# Altium integrated library National Semiconductor ADC.IntLib: 538 symbols (part 9 of 19)
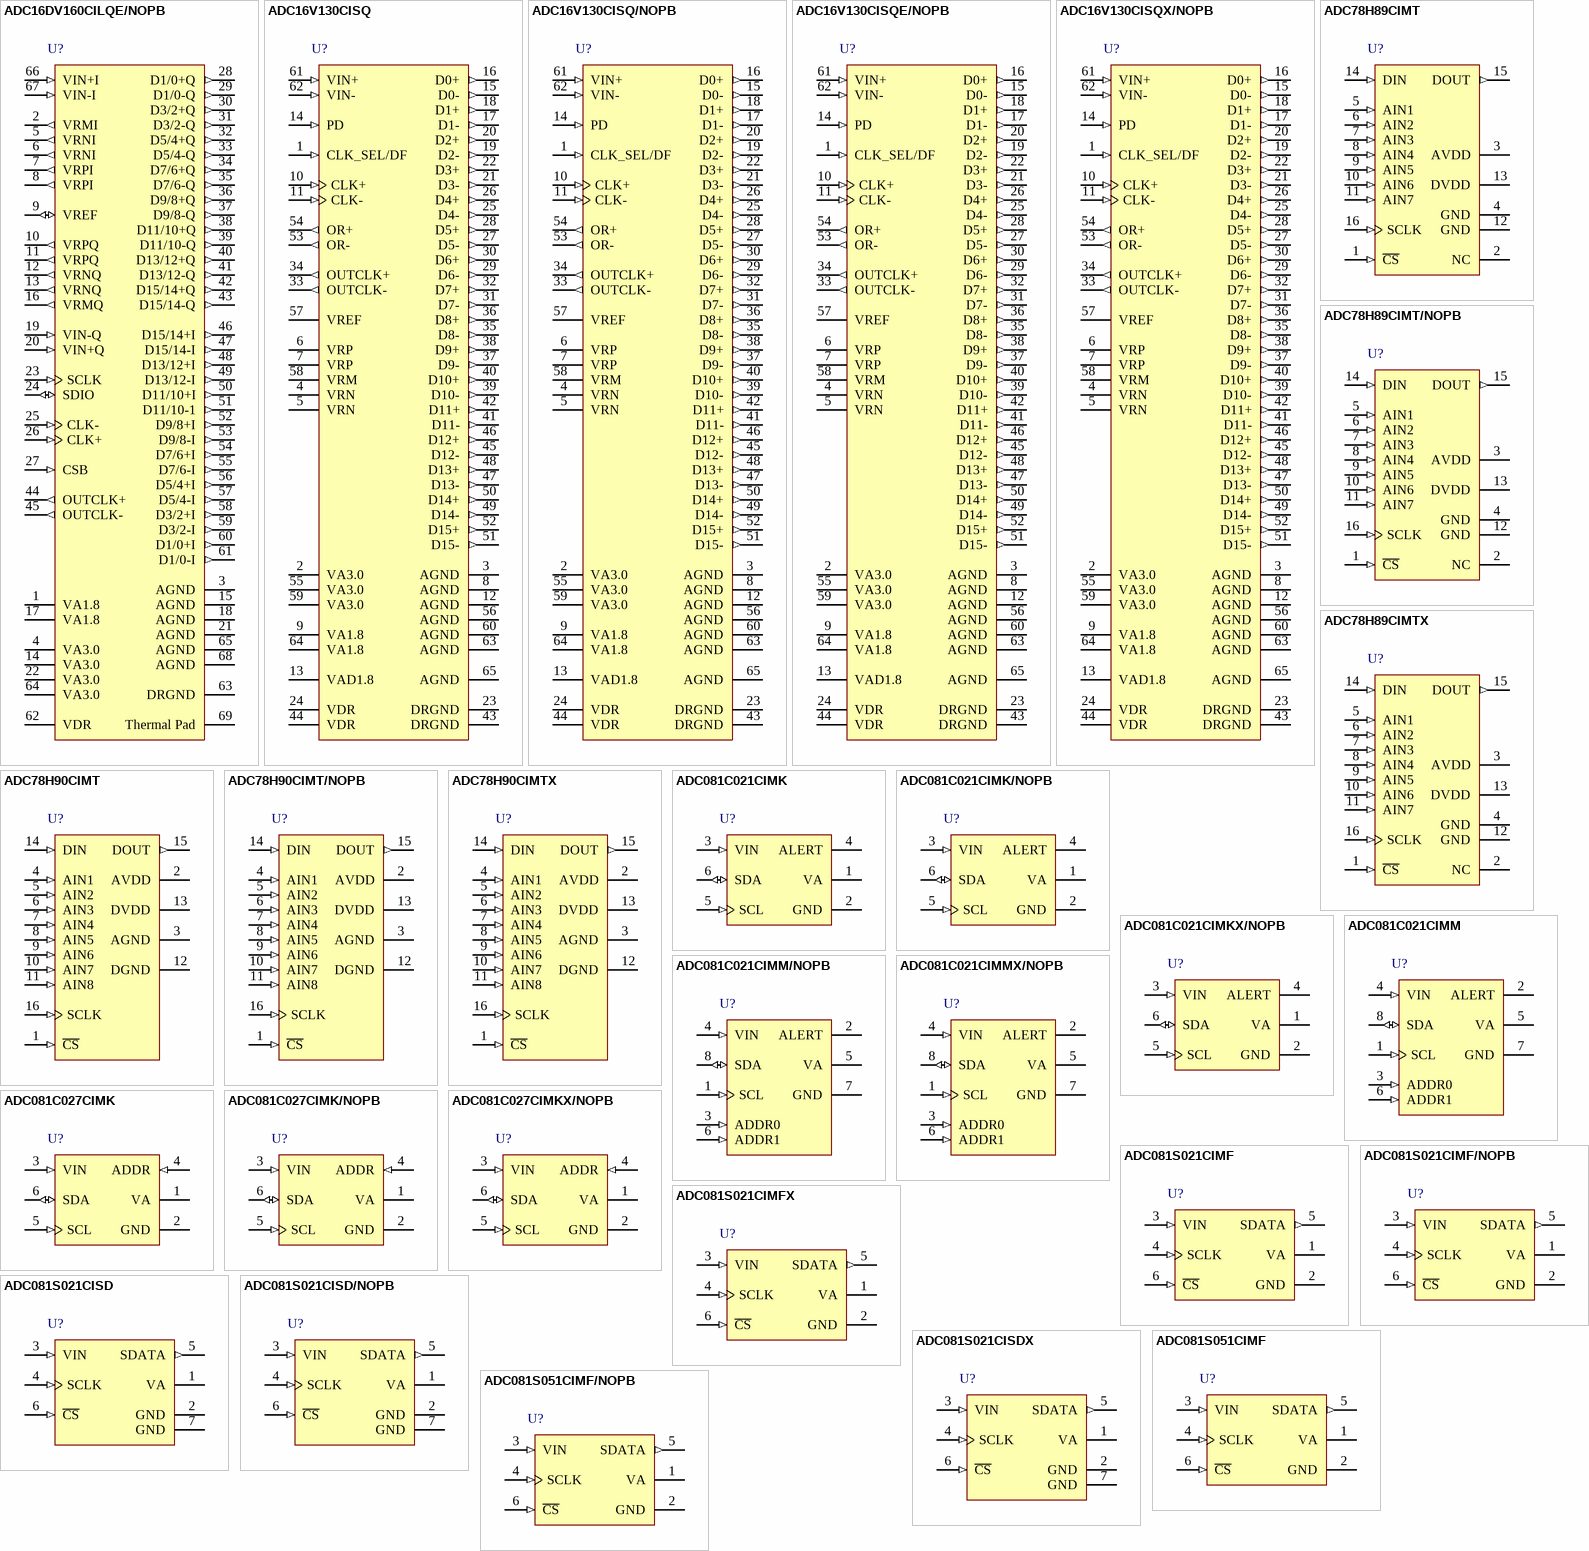
[diagram p53: symbols ADC16DV160CILQE/NOPB to ADC081S051CIMF/NOPB]

## ADC16V130CISQ/NOPB
designator U?
16-Bit, 130 MSPS A/D Converter with LVDS Outputs, 64-pin LLP, Pb-Free; PartNumber: ADC16V130CISQ/NOPB; Manufacturer: National Semiconductor; PackageTopMarking: NS*UZXYTTE#*ADC16V130; PowerWise: Y; CompType: ADC IC; DatasheetVersion: Apr-2009; PackageVersion: revA, Apr-2006; PackageReference: SQA64A; PackageDescription: LLP, Quad, 9 x 9 x 0.8mm, 64 Lead, 0.5mm Pitch, No Pullback; RoHS: Y; PinCount: 64; High-Reliability: Y; ComponentLink1Description: ADC16V130 Datasheet; ComponentLink1URL: http://www.national.com/ds/AD/ADC16V130.pdf; ComponentLink2Description: ADC16V130 Web Page; ComponentLink2URL: http://www.national.com/pf/AD/ADC16V130.html; ComponentLink3Description: SQA64A Package Page; ComponentLink3URL: http://www.national.com/packaging/folders/sqa64a.html
footprint SQA64A (QFN, 64-Leads, Body 9x9mm, Pitch 0.5mm, Thermal Pad 7.2x7.2mm, NSC Recommended)
pins: 1 CLK_SEL/DF (in), 2 VA3.0 (power), 3 AGND (power), 4 VRN, 5 VRN, 6 VRP, 7 VRP, 8 AGND (power), 9 VA1.8 (power), 10 CLK+ (in), 11 CLK- (in), 12 AGND (power), 13 VAD1.8 (power), 14 PD (in), 15 D0- (out), 16 D0+ (out), 17 D1- (out), 18 D1+ (out), 19 D2- (out), 20 D2+ (out), 21 D3- (out), 22 D3+ (out), 23 DRGND (power), 24 VDR (power), 25 D4- (out), 26 D4+ (out), 27 D5- (out), 28 D5+ (out), 29 D6- (out), 30 D6+ (out), 31 D7- (out), 32 D7+ (out), 33 OUTCLK- (out), 34 OUTCLK+ (out), 35 D8- (out), 36 D8+ (out), 37 D9- (out), 38 D9+ (out), 39 D10- (out), 40 D10+ (out), 41 D11- (out), 42 D11+ (out), 43 DRGND (power), 44 VDR (power), 45 D12- (out), 46 D12+ (out), 47 D13- (out), 48 D13+ (out), 49 D14- (out), 50 D14+ (out), 51 D15- (out), 52 D15+ (out), 53 OR- (out), 54 OR+ (out), 55 VA3.0 (power), 56 AGND (power), 57 VREF (power), 58 VRM, 59 VA3.0 (power), 60 AGND (power), 61 VIN+ (in), 62 VIN- (in), 63 AGND (power), 64 VA1.8 (power), 65 AGND (power)

## ADC16V130CISQE/NOPB
designator U?
16-Bit, 130 MSPS A/D Converter with LVDS Outputs, 64-pin LLP, Pb-Free; PartNumber: ADC16V130CISQE/NOPB; Manufacturer: National Semiconductor; PackageTopMarking: NS*UZXYTTE#*ADC16V130; PowerWise: Y; CompType: ADC IC; DatasheetVersion: Apr-2009; PackageVersion: revA, Apr-2006; PackageReference: SQA64A; PackageDescription: LLP, Quad, 9 x 9 x 0.8mm, 64 Lead, 0.5mm Pitch, No Pullback; RoHS: Y; PinCount: 64; High-Reliability: Y; ComponentLink1Description: ADC16V130 Datasheet; ComponentLink1URL: http://www.national.com/ds/AD/ADC16V130.pdf; ComponentLink2Description: ADC16V130 Web Page; ComponentLink2URL: http://www.national.com/pf/AD/ADC16V130.html; ComponentLink3Description: SQA64A Package Page; ComponentLink3URL: http://www.national.com/packaging/folders/sqa64a.html
footprint SQA64A (QFN, 64-Leads, Body 9x9mm, Pitch 0.5mm, Thermal Pad 7.2x7.2mm, NSC Recommended)
pins: 1 CLK_SEL/DF (in), 2 VA3.0 (power), 3 AGND (power), 4 VRN, 5 VRN, 6 VRP, 7 VRP, 8 AGND (power), 9 VA1.8 (power), 10 CLK+ (in), 11 CLK- (in), 12 AGND (power), 13 VAD1.8 (power), 14 PD (in), 15 D0- (out), 16 D0+ (out), 17 D1- (out), 18 D1+ (out), 19 D2- (out), 20 D2+ (out), 21 D3- (out), 22 D3+ (out), 23 DRGND (power), 24 VDR (power), 25 D4- (out), 26 D4+ (out), 27 D5- (out), 28 D5+ (out), 29 D6- (out), 30 D6+ (out), 31 D7- (out), 32 D7+ (out), 33 OUTCLK- (out), 34 OUTCLK+ (out), 35 D8- (out), 36 D8+ (out), 37 D9- (out), 38 D9+ (out), 39 D10- (out), 40 D10+ (out), 41 D11- (out), 42 D11+ (out), 43 DRGND (power), 44 VDR (power), 45 D12- (out), 46 D12+ (out), 47 D13- (out), 48 D13+ (out), 49 D14- (out), 50 D14+ (out), 51 D15- (out), 52 D15+ (out), 53 OR- (out), 54 OR+ (out), 55 VA3.0 (power), 56 AGND (power), 57 VREF (power), 58 VRM, 59 VA3.0 (power), 60 AGND (power), 61 VIN+ (in), 62 VIN- (in), 63 AGND (power), 64 VA1.8 (power), 65 AGND (power)

## ADC16V130CISQX/NOPB
designator U?
16-Bit, 130 MSPS A/D Converter with LVDS Outputs, 64-pin LLP, Pb-Free; PartNumber: ADC16V130CISQX/NOPB; Manufacturer: National Semiconductor; PackageTopMarking: NS*UZXYTTE#*ADC16V130; PowerWise: N; CompType: ADC IC; High-Reliability: Y; DatasheetVersion: Apr-2009; PackageVersion: revA, Apr-2006; PackageReference: SQA64A; PackageDescription: LLP, Quad, 9 x 9 x 0.8mm, 64 Lead, 0.5mm Pitch, No Pullback; RoHS: Y; PinCount: 64; ComponentLink1Description: ADC16V130 Datasheet; ComponentLink1URL: http://www.national.com/ds/AD/ADC16V130.pdf; ComponentLink2Description: ADC16V130 Web Page; ComponentLink2URL: http://www.national.com/pf/AD/ADC16V130.html; ComponentLink3Description: SQA64A Package Page; ComponentLink3URL: http://www.national.com/packaging/folders/sqa64a.html
footprint SQA64A (QFN, 64-Leads, Body 9x9mm, Pitch 0.5mm, Thermal Pad 7.2x7.2mm, NSC Recommended)
pins: 1 CLK_SEL/DF (in), 2 VA3.0 (power), 3 AGND (power), 4 VRN, 5 VRN, 6 VRP, 7 VRP, 8 AGND (power), 9 VA1.8 (power), 10 CLK+ (in), 11 CLK- (in), 12 AGND (power), 13 VAD1.8 (power), 14 PD (in), 15 D0- (out), 16 D0+ (out), 17 D1- (out), 18 D1+ (out), 19 D2- (out), 20 D2+ (out), 21 D3- (out), 22 D3+ (out), 23 DRGND (power), 24 VDR (power), 25 D4- (out), 26 D4+ (out), 27 D5- (out), 28 D5+ (out), 29 D6- (out), 30 D6+ (out), 31 D7- (out), 32 D7+ (out), 33 OUTCLK- (out), 34 OUTCLK+ (out), 35 D8- (out), 36 D8+ (out), 37 D9- (out), 38 D9+ (out), 39 D10- (out), 40 D10+ (out), 41 D11- (out), 42 D11+ (out), 43 DRGND (power), 44 VDR (power), 45 D12- (out), 46 D12+ (out), 47 D13- (out), 48 D13+ (out), 49 D14- (out), 50 D14+ (out), 51 D15- (out), 52 D15+ (out), 53 OR- (out), 54 OR+ (out), 55 VA3.0 (power), 56 AGND (power), 57 VREF (power), 58 VRM, 59 VA3.0 (power), 60 AGND (power), 61 VIN+ (in), 62 VIN- (in), 63 AGND (power), 64 VA1.8 (power), 65 AGND (power)

## ADC78H89CIMT
designator U?
7-Channel, 500 kSPS, 12-Bit A/D Converter, 16-pin TSSOP; PartNumber: ADC78H89CIMT; Manufacturer: National Semiconductor; PackageTopMarking: NSUZXYTT*78H89*CIMT; PowerWise: Y; CompType: ADC IC; DatasheetVersion: Apr-2003; PackageVersion: revD, Jun-2003; PackageReference: MTC16; PackageDescription: Molded TSSOP, Jedec, 5 x 4.4 x 0.9mm Body, 16 Lead, 0.65mm Pitch; RoHS: N; PinCount: 16; High-Reliability: Y; Code_JEDEC: MO-153-AB; ComponentLink1Description: ADC78H89 Datasheet; ComponentLink1URL: http://www.national.com/ds/AD/ADC78H89.pdf; ComponentLink2Description: ADC78H89 Web Page; ComponentLink2URL: http://www.national.com/pf/AD/ADC78H89.html; ComponentLink3Description: MTC16 Package Page; ComponentLink3URL: http://www.national.com/packaging/folders/mtc16.html
footprint MTC16_N (TSOP, 16-Leads, Body 5x4.4mm, Pitch 0.65mm, IPC Medium Density)
footprint MTC16_L (TSOP, 16-Leads, Body 5x4.4mm, Pitch 0.65mm, IPC High Density)
footprint MTC16_M (TSOP, 16-Leads, Body 5x4.4mm, Pitch 0.65mm, IPC Low Density)
pins: 1 ~{CS} (in), 2 NC, 3 AVDD (power), 4 GND (power), 5 AIN1 (in), 6 AIN2 (in), 7 AIN3 (in), 8 AIN4 (in), 9 AIN5 (in), 10 AIN6 (in), 11 AIN7 (in), 12 GND (power), 13 DVDD (power), 14 DIN (in), 15 DOUT (out), 16 SCLK (in)

## ADC78H89CIMT/NOPB
designator U?
7-Channel, 500 kSPS, 12-Bit A/D Converter, 16-pin TSSOP, Pb-Free; PartNumber: ADC78H89CIMT/NOPB; Manufacturer: National Semiconductor; PackageTopMarking: NSUZXYTT*78H89*CIMT; PowerWise: Y; CompType: ADC IC; DatasheetVersion: Apr-2003; PackageVersion: revD, Jun-2003; PackageReference: MTC16; PackageDescription: Molded TSSOP, Jedec, 5 x 4.4 x 0.9mm Body, 16 Lead, 0.65mm Pitch; RoHS: Y; PinCount: 16; High-Reliability: Y; Code_JEDEC: MO-153-AB; ComponentLink1Description: ADC78H89 Datasheet; ComponentLink1URL: http://www.national.com/ds/AD/ADC78H89.pdf; ComponentLink2Description: ADC78H89 Web Page; ComponentLink2URL: http://www.national.com/pf/AD/ADC78H89.html; ComponentLink3Description: MTC16 Package Page; ComponentLink3URL: http://www.national.com/packaging/folders/mtc16.html
footprint MTC16_N (TSOP, 16-Leads, Body 5x4.4mm, Pitch 0.65mm, IPC Medium Density)
footprint MTC16_L (TSOP, 16-Leads, Body 5x4.4mm, Pitch 0.65mm, IPC High Density)
footprint MTC16_M (TSOP, 16-Leads, Body 5x4.4mm, Pitch 0.65mm, IPC Low Density)
pins: 1 ~{CS} (in), 2 NC, 3 AVDD (power), 4 GND (power), 5 AIN1 (in), 6 AIN2 (in), 7 AIN3 (in), 8 AIN4 (in), 9 AIN5 (in), 10 AIN6 (in), 11 AIN7 (in), 12 GND (power), 13 DVDD (power), 14 DIN (in), 15 DOUT (out), 16 SCLK (in)

## ADC78H89CIMTX
designator U?
7-Channel, 500 kSPS, 12-Bit A/D Converter, 16-pin TSSOP; PartNumber: ADC78H89CIMTX; Manufacturer: National Semiconductor; PackageTopMarking: NSUZXYTT*78H89*CIMT; PowerWise: Y; CompType: ADC IC; DatasheetVersion: Apr-2003; PackageVersion: revD, Jun-2003; PackageReference: MTC16; PackageDescription: Molded TSSOP, Jedec, 5 x 4.4 x 0.9mm Body, 16 Lead, 0.65mm Pitch; RoHS: N; PinCount: 16; High-Reliability: Y; Code_JEDEC: MO-153-AB; ComponentLink1Description: ADC78H89 Datasheet; ComponentLink1URL: http://www.national.com/ds/AD/ADC78H89.pdf; ComponentLink2Description: ADC78H89 Web Page; ComponentLink2URL: http://www.national.com/pf/AD/ADC78H89.html; ComponentLink3Description: MTC16 Package Page; ComponentLink3URL: http://www.national.com/packaging/folders/mtc16.html
footprint MTC16_N (TSOP, 16-Leads, Body 5x4.4mm, Pitch 0.65mm, IPC Medium Density)
footprint MTC16_L (TSOP, 16-Leads, Body 5x4.4mm, Pitch 0.65mm, IPC High Density)
footprint MTC16_M (TSOP, 16-Leads, Body 5x4.4mm, Pitch 0.65mm, IPC Low Density)
pins: 1 ~{CS} (in), 2 NC, 3 AVDD (power), 4 GND (power), 5 AIN1 (in), 6 AIN2 (in), 7 AIN3 (in), 8 AIN4 (in), 9 AIN5 (in), 10 AIN6 (in), 11 AIN7 (in), 12 GND (power), 13 DVDD (power), 14 DIN (in), 15 DOUT (out), 16 SCLK (in)

## ADC78H90CIMT
designator U?
8-Channel, 500 kSPS, 12-Bit A/D Converter, 16-pin TSSOP; PartNumber: ADC78H90CIMT; Manufacturer: National Semiconductor; PackageTopMarking: NSUZXYTT*78H90*CIMT; PowerWise: Y; CompType: ADC IC; DatasheetVersion: Nov-2003; PackageVersion: revD, Jun-2003; PackageReference: MTC16; PackageDescription: Molded TSSOP, Jedec, 5 x 4.4 x 0.9mm Body, 16 Lead, 0.65mm Pitch; RoHS: N; PinCount: 16; High-Reliability: Y; Code_JEDEC: MO-153-AB; ComponentLink1Description: ADC78H90 Datasheet; ComponentLink1URL: http://www.national.com/ds/AD/ADC78H90.pdf; ComponentLink2Description: ADC78H90 Web Page; ComponentLink2URL: http://www.national.com/pf/AD/ADC78H90.html; ComponentLink3Description: MTC16 Package Page; ComponentLink3URL: http://www.national.com/packaging/folders/mtc16.html
footprint MTC16_N (TSOP, 16-Leads, Body 5x4.4mm, Pitch 0.65mm, IPC Medium Density)
footprint MTC16_L (TSOP, 16-Leads, Body 5x4.4mm, Pitch 0.65mm, IPC High Density)
footprint MTC16_M (TSOP, 16-Leads, Body 5x4.4mm, Pitch 0.65mm, IPC Low Density)
pins: 1 ~{CS} (in), 2 AVDD (power), 3 AGND (power), 4 AIN1 (in), 5 AIN2 (in), 6 AIN3 (in), 7 AIN4 (in), 8 AIN5 (in), 9 AIN6 (in), 10 AIN7 (in), 11 AIN8 (in), 12 DGND (power), 13 DVDD (power), 14 DIN (in), 15 DOUT (out), 16 SCLK (in)

## ADC78H90CIMT/NOPB
designator U?
8-Channel, 500 kSPS, 12-Bit A/D Converter, 16-pin TSSOP, Pb-Free; PartNumber: ADC78H90CIMT/NOPB; Manufacturer: National Semiconductor; PackageTopMarking: NSUZXYTT*78H90*CIMT; PowerWise: Y; CompType: ADC IC; DatasheetVersion: Nov-2003; PackageVersion: revD, Jun-2003; PackageReference: MTC16; PackageDescription: Molded TSSOP, Jedec, 5 x 4.4 x 0.9mm Body, 16 Lead, 0.65mm Pitch; RoHS: Y; PinCount: 16; High-Reliability: Y; Code_JEDEC: MO-153-AB; ComponentLink1Description: ADC78H90 Datasheet; ComponentLink1URL: http://www.national.com/ds/AD/ADC78H90.pdf; ComponentLink2Description: ADC78H90 Web Page; ComponentLink2URL: http://www.national.com/pf/AD/ADC78H90.html; ComponentLink3Description: MTC16 Package Page; ComponentLink3URL: http://www.national.com/packaging/folders/mtc16.html
footprint MTC16_N (TSOP, 16-Leads, Body 5x4.4mm, Pitch 0.65mm, IPC Medium Density)
footprint MTC16_L (TSOP, 16-Leads, Body 5x4.4mm, Pitch 0.65mm, IPC High Density)
footprint MTC16_M (TSOP, 16-Leads, Body 5x4.4mm, Pitch 0.65mm, IPC Low Density)
pins: 1 ~{CS} (in), 2 AVDD (power), 3 AGND (power), 4 AIN1 (in), 5 AIN2 (in), 6 AIN3 (in), 7 AIN4 (in), 8 AIN5 (in), 9 AIN6 (in), 10 AIN7 (in), 11 AIN8 (in), 12 DGND (power), 13 DVDD (power), 14 DIN (in), 15 DOUT (out), 16 SCLK (in)

## ADC78H90CIMTX
designator U?
8-Channel, 500 kSPS, 12-Bit A/D Converter, 16-pin TSSOP; PartNumber: ADC78H90CIMTX; Manufacturer: National Semiconductor; PackageTopMarking: NSUZXYTT*78H90*CIMT; PowerWise: Y; CompType: ADC IC; DatasheetVersion: Nov-2003; PackageVersion: revD, Jun-2003; PackageReference: MTC16; PackageDescription: Molded TSSOP, Jedec, 5 x 4.4 x 0.9mm Body, 16 Lead, 0.65mm Pitch; RoHS: N; PinCount: 16; High-Reliability: Y; Code_JEDEC: MO-153-AB; ComponentLink1Description: ADC78H90 Datasheet; ComponentLink1URL: http://www.national.com/ds/AD/ADC78H90.pdf; ComponentLink2Description: ADC78H90 Web Page; ComponentLink2URL: http://www.national.com/pf/AD/ADC78H90.html; ComponentLink3Description: MTC16 Package Page; ComponentLink3URL: http://www.national.com/packaging/folders/mtc16.html
footprint MTC16_N (TSOP, 16-Leads, Body 5x4.4mm, Pitch 0.65mm, IPC Medium Density)
footprint MTC16_L (TSOP, 16-Leads, Body 5x4.4mm, Pitch 0.65mm, IPC High Density)
footprint MTC16_M (TSOP, 16-Leads, Body 5x4.4mm, Pitch 0.65mm, IPC Low Density)
pins: 1 ~{CS} (in), 2 AVDD (power), 3 AGND (power), 4 AIN1 (in), 5 AIN2 (in), 6 AIN3 (in), 7 AIN4 (in), 8 AIN5 (in), 9 AIN6 (in), 10 AIN7 (in), 11 AIN8 (in), 12 DGND (power), 13 DVDD (power), 14 DIN (in), 15 DOUT (out), 16 SCLK (in)

## ADC081C021CIMK
designator U?
I2C-Compatible, 8-Bit Analog-to-Digital Converter (ADC) with Alert Pin, 6-pin Tiny SOT23; PartNumber: ADC081C021CIMK; Manufacturer: National Semiconductor; PackageTopMarking: X34C*XTT; PowerWise: N; CompType: ADC IC; DatasheetVersion: Feb-2009; PackageVersion: revE, Nov-2008; PackageReference: MK06A; PackageDescription: Molded TSOT, 2.97 x 1.65 x 0.87mm Body, 6 Lead, 0.95mm Pitch; RoHS: Y; PinCount: 6; Code_JEDEC: MO-193-AA; Code_IPC: SOT26A-6; ComponentLink1Description: ADC081C021 Datasheet; ComponentLink1URL: http://www.national.com/ds/AD/ADC081C021.pdf; ComponentLink2Description: ADC081C021 Web Page; ComponentLink2URL: http://www.national.com/pf/AD/ADC081C021.html; ComponentLink3Description: MK06A Package Page; ComponentLink3URL: http://www.national.com/packaging/folders/mk06a.html
footprint MK06A_N (SOT23, 6-Leads, Body 3.0x1.7mm, Pitch 0.95mm, Lead Span 2.9mm, IPC Medium Density)
footprint MK06A_L (SOT23, 6-Leads, Body 3.0x1.7mm, Pitch 0.95mm, Lead Span 2.9mm, IPC High Density)
footprint MK06A_M (SOT23, 6-Leads, Body 3.0x1.7mm, Pitch 0.95mm, Lead Span 2.9mm, IPC Low Density)
pins: 1 VA (power), 2 GND (power), 3 VIN (in), 4 ALERT (oc), 5 SCL (in), 6 SDA (io)

## ADC081C021CIMK/NOPB
designator U?
I2C-Compatible, 8-Bit Analog-to-Digital Converter with Alert Pin, 6-pin Tiny SOT23, Pb-Free; PartNumber: ADC081C021CIMK/NOPB; Manufacturer: National Semiconductor; PackageTopMarking: X34C*XTT; PowerWise: N; CompType: ADC IC; DatasheetVersion: Feb-2009; PackageVersion: revE, Nov-2008; PackageReference: MK06A; PackageDescription: Molded TSOT, 2.97 x 1.65 x 0.87mm Body, 6 Lead, 0.95mm Pitch; RoHS: Y; PinCount: 6; Code_JEDEC: MO-193-AA; Code_IPC: SOT26A-6; ComponentLink1Description: ADC081C021 Datasheet; ComponentLink1URL: http://www.national.com/ds/AD/ADC081C021.pdf; ComponentLink2Description: ADC081C021 Web Page; ComponentLink2URL: http://www.national.com/pf/AD/ADC081C021.html; ComponentLink3Description: MK06A Package Page; ComponentLink3URL: http://www.national.com/packaging/folders/mk06a.html
footprint MK06A_N (SOT23, 6-Leads, Body 3.0x1.7mm, Pitch 0.95mm, Lead Span 2.9mm, IPC Medium Density)
footprint MK06A_L (SOT23, 6-Leads, Body 3.0x1.7mm, Pitch 0.95mm, Lead Span 2.9mm, IPC High Density)
footprint MK06A_M (SOT23, 6-Leads, Body 3.0x1.7mm, Pitch 0.95mm, Lead Span 2.9mm, IPC Low Density)
pins: 1 VA (power), 2 GND (power), 3 VIN (in), 4 ALERT (oc), 5 SCL (in), 6 SDA (io)

## ADC081C021CIMKX/NOPB
designator U?
I2C-Compatible, 8-Bit Analog-to-Digital Converter with Alert Pin, 6-pin Tiny SOT23, Pb-Free; PartNumber: ADC081C021CIMKX/NOPB; Manufacturer: National Semiconductor; PackageTopMarking: X34C*XTT; PowerWise: N; CompType: ADC IC; DatasheetVersion: Feb-2009; PackageVersion: revE, Nov-2008; PackageReference: MK06A; PackageDescription: Molded TSOT, 2.97 x 1.65 x 0.87mm Body, 6 Lead, 0.95mm Pitch; RoHS: Y; PinCount: 6; Code_JEDEC: MO-193-AA; Code_IPC: SOT26A-6; ComponentLink1Description: ADC081C021 Datasheet; ComponentLink1URL: http://www.national.com/ds/AD/ADC081C021.pdf; ComponentLink2Description: ADC081C021 Web Page; ComponentLink2URL: http://www.national.com/pf/AD/ADC081C021.html; ComponentLink3Description: MK06A Package Page; ComponentLink3URL: http://www.national.com/packaging/folders/mk06a.html
footprint MK06A_N (SOT23, 6-Leads, Body 3.0x1.7mm, Pitch 0.95mm, Lead Span 2.9mm, IPC Medium Density)
footprint MK06A_L (SOT23, 6-Leads, Body 3.0x1.7mm, Pitch 0.95mm, Lead Span 2.9mm, IPC High Density)
footprint MK06A_M (SOT23, 6-Leads, Body 3.0x1.7mm, Pitch 0.95mm, Lead Span 2.9mm, IPC Low Density)
pins: 1 VA (power), 2 GND (power), 3 VIN (in), 4 ALERT (oc), 5 SCL (in), 6 SDA (io)

## ADC081C021CIMM
designator U?
I2C-Compatible, 8-Bit Analog-to-Digital Converter with Alert Pin, 8-pin Mini SOIC; PartNumber: ADC081C021CIMM; Manufacturer: National Semiconductor; PackageTopMarking: ZXTT*X36C; PowerWise: N; CompType: ADC IC; DatasheetVersion: Feb-2009; PackageVersion: revF, Apr-2008; PackageReference: MUA08A; PackageDescription: MINI SOIC, .118 x .118 x .034in, 8 Lead, .0256in Pitch; RoHS: Y; PinCount: 8; Code_JEDEC: MO-187-AA; ComponentLink1Description: ADC081C021 Datasheet; ComponentLink1URL: http://www.national.com/ds/AD/ADC081C021.pdf; ComponentLink2Description: ADC081C021 Web Page; ComponentLink2URL: http://www.national.com/pf/AD/ADC081C021.html; ComponentLink3Description: MUA08A Package Page; ComponentLink3URL: http://www.national.com/packaging/folders/mua08a.html
footprint MUA08A_N (TSOP, 8-Leads, Body 3x3mm, Pitch 0.65mm, IPC Medium Density)
footprint MUA08A_L (TSOP, 8-Leads, Body 3x3mm, Pitch 0.65mm, IPC High Density)
footprint MUA08A_M (TSOP, 8-Leads, Body 3x3mm, Pitch 0.65mm, IPC Low Density)
pins: 1 SCL (in), 2 ALERT (oc), 3 ADDR0 (in), 4 VIN (in), 5 VA (power), 6 ADDR1 (in), 7 GND (power), 8 SDA (io)

## ADC081C021CIMM/NOPB
designator U?
I2C-Compatible, 8-Bit Analog-to-Digital Converter with Alert Pin, 8-pin Mini SOIC, Pb-Free; PartNumber: ADC081C021CIMM/NOPB; Manufacturer: National Semiconductor; PackageTopMarking: ZXTT*X36C; PowerWise: N; CompType: ADC IC; DatasheetVersion: Feb-2009; PackageVersion: revF, Apr-2008; PackageReference: MUA08A; PackageDescription: MINI SOIC, .118 x .118 x .034in, 8 Lead, .0256in Pitch; RoHS: Y; PinCount: 8; Code_JEDEC: MO-187-AA; ComponentLink1Description: ADC081C021 Datasheet; ComponentLink1URL: http://www.national.com/ds/AD/ADC081C021.pdf; ComponentLink2Description: ADC081C021 Web Page; ComponentLink2URL: http://www.national.com/pf/AD/ADC081C021.html; ComponentLink3Description: MUA08A Package Page; ComponentLink3URL: http://www.national.com/packaging/folders/mua08a.html
footprint MUA08A_N (TSOP, 8-Leads, Body 3x3mm, Pitch 0.65mm, IPC Medium Density)
footprint MUA08A_L (TSOP, 8-Leads, Body 3x3mm, Pitch 0.65mm, IPC High Density)
footprint MUA08A_M (TSOP, 8-Leads, Body 3x3mm, Pitch 0.65mm, IPC Low Density)
pins: 1 SCL (in), 2 ALERT (oc), 3 ADDR0 (in), 4 VIN (in), 5 VA (power), 6 ADDR1 (in), 7 GND (power), 8 SDA (io)

## ADC081C021CIMMX/NOPB
designator U?
I2C-Compatible, 8-Bit Analog-to-Digital Converter with Alert Pin, 8-pin Mini SOIC, Pb-Free; PartNumber: ADC081C021CIMMX/NOPB; Manufacturer: National Semiconductor; PackageTopMarking: ZXTT*X36C; PowerWise: N; CompType: ADC IC; DatasheetVersion: Feb-2009; PackageVersion: revF, Apr-2008; PackageReference: MUA08A; PackageDescription: MINI SOIC, .118 x .118 x .034in, 8 Lead, .0256in Pitch; RoHS: Y; PinCount: 8; Code_JEDEC: MO-187-AA; ComponentLink1Description: ADC081C021 Datasheet; ComponentLink1URL: http://www.national.com/ds/AD/ADC081C021.pdf; ComponentLink2Description: ADC081C021 Web Page; ComponentLink2URL: http://www.national.com/pf/AD/ADC081C021.html; ComponentLink3Description: MUA08A Package Page; ComponentLink3URL: http://www.national.com/packaging/folders/mua08a.html
footprint MUA08A_N (TSOP, 8-Leads, Body 3x3mm, Pitch 0.65mm, IPC Medium Density)
footprint MUA08A_L (TSOP, 8-Leads, Body 3x3mm, Pitch 0.65mm, IPC High Density)
footprint MUA08A_M (TSOP, 8-Leads, Body 3x3mm, Pitch 0.65mm, IPC Low Density)
pins: 1 SCL (in), 2 ALERT (oc), 3 ADDR0 (in), 4 VIN (in), 5 VA (power), 6 ADDR1 (in), 7 GND (power), 8 SDA (io)

## ADC081C027CIMK
designator U?
I2C-Compatible, 8-Bit Analog-to-Digital Converter (ADC) with Alert Function, 6-pin Tiny SOT23; PartNumber: ADC081C027CIMK; Manufacturer: National Semiconductor; PackageTopMarking: X35C*XTT; PowerWise: N; CompType: ADC IC; DatasheetVersion: Feb-2008; PackageVersion: revE, Nov-2008; PackageReference: MK06A; PackageDescription: Molded TSOT, 2.97 x 1.65 x 0.87mm Body, 6 Lead, 0.95mm Pitch; RoHS: Y; PinCount: 6; Code_JEDEC: MO-193-AA; Code_IPC: SOT26A-6; ComponentLink1Description: ADC081C027 Datasheet; ComponentLink1URL: http://www.national.com/ds/AD/ADC081C027.pdf; ComponentLink2Description: ADC081C027 Web Page; ComponentLink2URL: http://www.national.com/pf/AD/ADC081C027.html; ComponentLink3Description: MK06A Package Page; ComponentLink3URL: http://www.national.com/packaging/folders/mk06a.html
footprint MK06A_N (SOT23, 6-Leads, Body 3.0x1.7mm, Pitch 0.95mm, Lead Span 2.9mm, IPC Medium Density)
footprint MK06A_L (SOT23, 6-Leads, Body 3.0x1.7mm, Pitch 0.95mm, Lead Span 2.9mm, IPC High Density)
footprint MK06A_M (SOT23, 6-Leads, Body 3.0x1.7mm, Pitch 0.95mm, Lead Span 2.9mm, IPC Low Density)
pins: 1 VA (power), 2 GND (power), 3 VIN (in), 4 ADDR (in), 5 SCL (in), 6 SDA (io)

## ADC081C027CIMK/NOPB
designator U?
I2C-Compatible, 8-Bit Analog-to-Digital Converter with Alert Function, 6-pin Tiny SOT23, Pb-Free; PartNumber: ADC081C027CIMK/NOPB; Manufacturer: National Semiconductor; PackageTopMarking: X35C*XTT; PowerWise: N; CompType: ADC IC; DatasheetVersion: Feb-2008; PackageVersion: revE, Nov-2008; PackageReference: MK06A; PackageDescription: Molded TSOT, 2.97 x 1.65 x 0.87mm Body, 6 Lead, 0.95mm Pitch; RoHS: Y; PinCount: 6; Code_JEDEC: MO-193-AA; Code_IPC: SOT26A-6; ComponentLink1Description: ADC081C027 Datasheet; ComponentLink1URL: http://www.national.com/ds/AD/ADC081C027.pdf; ComponentLink2Description: ADC081C027 Web Page; ComponentLink2URL: http://www.national.com/pf/AD/ADC081C027.html; ComponentLink3Description: MK06A Package Page; ComponentLink3URL: http://www.national.com/packaging/folders/mk06a.html
footprint MK06A_N (SOT23, 6-Leads, Body 3.0x1.7mm, Pitch 0.95mm, Lead Span 2.9mm, IPC Medium Density)
footprint MK06A_L (SOT23, 6-Leads, Body 3.0x1.7mm, Pitch 0.95mm, Lead Span 2.9mm, IPC High Density)
footprint MK06A_M (SOT23, 6-Leads, Body 3.0x1.7mm, Pitch 0.95mm, Lead Span 2.9mm, IPC Low Density)
pins: 1 VA (power), 2 GND (power), 3 VIN (in), 4 ADDR (in), 5 SCL (in), 6 SDA (io)

## ADC081C027CIMKX/NOPB
designator U?
I2C-Compatible, 8-Bit Analog-to-Digital Converter with Alert Function, 6-pin Tiny SOT23, Pb-Free; PartNumber: ADC081C027CIMKX/NOPB; Manufacturer: National Semiconductor; PackageTopMarking: X35C*XTT; PowerWise: N; CompType: ADC IC; DatasheetVersion: Feb-2008; PackageVersion: revE, Nov-2008; PackageReference: MK06A; PackageDescription: Molded TSOT, 2.97 x 1.65 x 0.87mm Body, 6 Lead, 0.95mm Pitch; RoHS: Y; PinCount: 6; Code_JEDEC: MO-193-AA; Code_IPC: SOT26A-6; ComponentLink1Description: ADC081C027 Datasheet; ComponentLink1URL: http://www.national.com/ds/AD/ADC081C027.pdf; ComponentLink2Description: ADC081C027 Web Page; ComponentLink2URL: http://www.national.com/pf/AD/ADC081C027.html; ComponentLink3Description: MK06A Package Page; ComponentLink3URL: http://www.national.com/packaging/folders/mk06a.html
footprint MK06A_N (SOT23, 6-Leads, Body 3.0x1.7mm, Pitch 0.95mm, Lead Span 2.9mm, IPC Medium Density)
footprint MK06A_L (SOT23, 6-Leads, Body 3.0x1.7mm, Pitch 0.95mm, Lead Span 2.9mm, IPC High Density)
footprint MK06A_M (SOT23, 6-Leads, Body 3.0x1.7mm, Pitch 0.95mm, Lead Span 2.9mm, IPC Low Density)
pins: 1 VA (power), 2 GND (power), 3 VIN (in), 4 ADDR (in), 5 SCL (in), 6 SDA (io)

## ADC081S021CIMF
designator U?
Single Channel, 50 to 200 kSPS, 8-Bit A/D Converter, 6-pin SOT-23; PartNumber: ADC081S021CIMF; Manufacturer: National Semiconductor; PackageTopMarking: X09C*XTT; PowerWise: Y; CompType: ADC IC; DatasheetVersion: Jan-2010; PackageVersion: revC, Sep-2005; PackageReference: MF06A; PackageDescription: Molded SOT-23, .115 x .063 x .040in Body, 6 Lead, .0375in in Pitch; RoHS: N; PinCount: 6; Code_JEDEC: MO-178-AB; Code_IPC: SOT26A-6; ComponentLink1Description: ADC081S021 Datasheet; ComponentLink1URL: http://www.national.com/ds/AD/ADC081S021.pdf; ComponentLink2Description: ADC081S021 Web Page; ComponentLink2URL: http://www.national.com/pf/AD/ADC081S021.html; ComponentLink3Description: MF06A Package Page; ComponentLink3URL: http://www.national.com/packaging/folders/mf06a.html
footprint MF06A_N (SOT23, 6-Leads, Body 2.9x1.6mm, Pitch 0.95mm, Lead Span 2.8mm, IPC Medium Density)
footprint MF06A_L (SOT23, 6-Leads, Body 2.9x1.6mm, Pitch 0.95mm, Lead Span 2.8mm, IPC High Density)
footprint MF06A_M (SOT23, 6-Leads, Body 2.9x1.6mm, Pitch 0.95mm, Lead Span 2.8mm, IPC Low Density)
pins: 1 VA (power), 2 GND (power), 3 VIN (in), 4 SCLK (in), 5 SDATA (out), 6 ~{CS} (in)

## ADC081S021CIMF/NOPB
designator U?
Single Channel, 50 to 200 kSPS, 8-Bit A/D Converter, 6-pin SOT-23, Pb-Free; PartNumber: ADC081S021CIMF/NOPB; Manufacturer: National Semiconductor; PackageTopMarking: X09C*XTT; PowerWise: Y; CompType: ADC IC; DatasheetVersion: Jan-2010; PackageVersion: revC, Sep-2005; PackageReference: MF06A; PackageDescription: Molded SOT-23, .115 x .063 x .040in Body, 6 Lead, .0375in in Pitch; RoHS: Y; PinCount: 6; Code_JEDEC: MO-178-AB; Code_IPC: SOT26A-6; ComponentLink1Description: ADC081S021 Datasheet; ComponentLink1URL: http://www.national.com/ds/AD/ADC081S021.pdf; ComponentLink2Description: ADC081S021 Web Page; ComponentLink2URL: http://www.national.com/pf/AD/ADC081S021.html; ComponentLink3Description: MF06A Package Page; ComponentLink3URL: http://www.national.com/packaging/folders/mf06a.html
footprint MF06A_N (SOT23, 6-Leads, Body 2.9x1.6mm, Pitch 0.95mm, Lead Span 2.8mm, IPC Medium Density)
footprint MF06A_L (SOT23, 6-Leads, Body 2.9x1.6mm, Pitch 0.95mm, Lead Span 2.8mm, IPC High Density)
footprint MF06A_M (SOT23, 6-Leads, Body 2.9x1.6mm, Pitch 0.95mm, Lead Span 2.8mm, IPC Low Density)
pins: 1 VA (power), 2 GND (power), 3 VIN (in), 4 SCLK (in), 5 SDATA (out), 6 ~{CS} (in)

## ADC081S021CIMFX
designator U?
Single Channel, 50 to 200 kSPS, 8-Bit A/D Converter, 6-pin SOT-23; PartNumber: ADC081S021CIMFX; Manufacturer: National Semiconductor; PackageTopMarking: X09C*XTT; PowerWise: Y; CompType: ADC IC; DatasheetVersion: Jan-2010; PackageVersion: revC, Sep-2005; PackageReference: MF06A; PackageDescription: Molded SOT-23, .115 x .063 x .040in Body, 6 Lead, .0375in in Pitch; RoHS: N; PinCount: 6; Code_JEDEC: MO-178-AB; Code_IPC: SOT26A-6; ComponentLink1Description: ADC081S021 Datasheet; ComponentLink1URL: http://www.national.com/ds/AD/ADC081S021.pdf; ComponentLink2Description: ADC081S021 Web Page; ComponentLink2URL: http://www.national.com/pf/AD/ADC081S021.html; ComponentLink3Description: MF06A Package Page; ComponentLink3URL: http://www.national.com/packaging/folders/mf06a.html
footprint MF06A_N (SOT23, 6-Leads, Body 2.9x1.6mm, Pitch 0.95mm, Lead Span 2.8mm, IPC Medium Density)
footprint MF06A_L (SOT23, 6-Leads, Body 2.9x1.6mm, Pitch 0.95mm, Lead Span 2.8mm, IPC High Density)
footprint MF06A_M (SOT23, 6-Leads, Body 2.9x1.6mm, Pitch 0.95mm, Lead Span 2.8mm, IPC Low Density)
pins: 1 VA (power), 2 GND (power), 3 VIN (in), 4 SCLK (in), 5 SDATA (out), 6 ~{CS} (in)

## ADC081S021CISD
designator U?
Single Channel, 50 to 200 kSPS, 8-Bit A/D Converter, 7-pin LLP; PartNumber: ADC081S021CISD; Manufacturer: National Semiconductor; PackageTopMarking: XTT*X9C; PowerWise: Y; CompType: ADC IC; DatasheetVersion: Jan-2010; PackageVersion: revA, Nov-2003; PackageReference: SDB06A; PackageDescription: LLP, Plastic, Dual, 2.2 x 2.5 x 0.8mm Body, 6 Lead, 0.65mm Pitch, No Pullback; RoHS: N; PinCount: 6; ComponentLink1Description: ADC081S021 Datasheet; ComponentLink1URL: http://www.national.com/ds/AD/ADC081S021.pdf; ComponentLink2Description: ADC081S021 Web Page; ComponentLink2URL: http://www.national.com/pf/AD/ADC081S021.html; ComponentLink3Description: SDB06A Package Page; ComponentLink3URL: http://www.national.com/packaging/folders/sdb06a.html
footprint SDB06A (SON, 6-Leads, Body 2.2x2.5mm, Pitch 0.65mm, NSC Recommended (SC-70 Land))
pins: 1 VA (power), 2 GND (power), 3 VIN (in), 4 SCLK (in), 5 SDATA (out), 6 ~{CS} (in), 7 GND (power)

## ADC081S021CISD/NOPB
designator U?
Single Channel, 50 to 200 kSPS, 8-Bit A/D Converter, 6-pin LLP, Pb-Free; PartNumber: ADC081S021CISD/NOPB; Manufacturer: National Semiconductor; PackageTopMarking: XTT*X9C; PowerWise: Y; CompType: ADC IC; DatasheetVersion: Jan-2010; PackageVersion: revA, Nov-2003; PackageReference: SDB06A; PackageDescription: LLP, Plastic, Dual, 2.2 x 2.5 x 0.8mm Body, 6 Lead, 0.65mm Pitch, No Pullback; RoHS: Y; PinCount: 6; ComponentLink1Description: ADC081S021 Datasheet; ComponentLink1URL: http://www.national.com/ds/AD/ADC081S021.pdf; ComponentLink2Description: ADC081S021 Web Page; ComponentLink2URL: http://www.national.com/pf/AD/ADC081S021.html; ComponentLink3Description: SDB06A Package Page; ComponentLink3URL: http://www.national.com/packaging/folders/sdb06a.html
footprint SDB06A (SON, 6-Leads, Body 2.2x2.5mm, Pitch 0.65mm, NSC Recommended (SC-70 Land))
pins: 1 VA (power), 2 GND (power), 3 VIN (in), 4 SCLK (in), 5 SDATA (out), 6 ~{CS} (in), 7 GND (power)

## ADC081S021CISDX
designator U?
Single Channel, 50 to 200 kSPS, 8-Bit A/D Converter, 6-pin LLP; PartNumber: ADC081S021CISDX; Manufacturer: National Semiconductor; PackageTopMarking: XTT*X9C; PowerWise: Y; CompType: ADC IC; DatasheetVersion: Jan-2010; PackageVersion: revA, Nov-2003; PackageReference: SDB06A; PackageDescription: LLP, Plastic, Dual, 2.2 x 2.5 x 0.8mm Body, 6 Lead, 0.65mm Pitch, No Pullback; RoHS: N; PinCount: 6; ComponentLink1Description: ADC081S021 Datasheet; ComponentLink1URL: http://www.national.com/ds/AD/ADC081S021.pdf; ComponentLink2Description: ADC081S021 Web Page; ComponentLink2URL: http://www.national.com/pf/AD/ADC081S021.html; ComponentLink3Description: SDB06A Package Page; ComponentLink3URL: http://www.national.com/packaging/folders/sdb06a.html
footprint SDB06A (SON, 6-Leads, Body 2.2x2.5mm, Pitch 0.65mm, NSC Recommended (SC-70 Land))
pins: 1 VA (power), 2 GND (power), 3 VIN (in), 4 SCLK (in), 5 SDATA (out), 6 ~{CS} (in), 7 GND (power)

## ADC081S051CIMF
designator U?
Single Channel, 200 to 500 kSPS, 8-Bit A/D Converter, 6-pin SOT-23; PartNumber: ADC081S051CIMF; Manufacturer: National Semiconductor; PackageTopMarking: X15C*XTT; PowerWise: Y; CompType: ADC IC; DatasheetVersion: Jan-2010; PackageVersion: revC, Sep-2005; PackageReference: MF06A; PackageDescription: Molded SOT-23, .115 x .063 x .040in Body, 6 Lead, .0375in in Pitch; RoHS: N; PinCount: 6; Code_JEDEC: MO-178-AB; Code_IPC: SOT26A-6; ComponentLink1Description: ADC081S051 Datasheet; ComponentLink1URL: http://www.national.com/ds/AD/ADC081S051.pdf; ComponentLink2Description: ADC081S051 Web Page; ComponentLink2URL: http://www.national.com/pf/AD/ADC081S051.html; ComponentLink3Description: MF06A Package Page; ComponentLink3URL: http://www.national.com/packaging/folders/mf06a.html
footprint MF06A_N (SOT23, 6-Leads, Body 2.9x1.6mm, Pitch 0.95mm, Lead Span 2.8mm, IPC Medium Density)
footprint MF06A_L (SOT23, 6-Leads, Body 2.9x1.6mm, Pitch 0.95mm, Lead Span 2.8mm, IPC High Density)
footprint MF06A_M (SOT23, 6-Leads, Body 2.9x1.6mm, Pitch 0.95mm, Lead Span 2.8mm, IPC Low Density)
pins: 1 VA (power), 2 GND (power), 3 VIN (in), 4 SCLK (in), 5 SDATA (out), 6 ~{CS} (in)

## ADC081S051CIMF/NOPB
designator U?
Single Channel, 200 to 500 kSPS, 8-Bit A/D Converter, 6-pin SOT-23, Pb-Free; PartNumber: ADC081S051CIMF/NOPB; Manufacturer: National Semiconductor; PackageTopMarking: X15C*XTT; PowerWise: Y; CompType: ADC IC; DatasheetVersion: Jan-2010; PackageVersion: revC, Sep-2005; PackageReference: MF06A; PackageDescription: Molded SOT-23, .115 x .063 x .040in Body, 6 Lead, .0375in in Pitch; RoHS: Y; PinCount: 6; Code_JEDEC: MO-178-AB; Code_IPC: SOT26A-6; ComponentLink1Description: ADC081S051 Datasheet; ComponentLink1URL: http://www.national.com/ds/AD/ADC081S051.pdf; ComponentLink2Description: ADC081S051 Web Page; ComponentLink2URL: http://www.national.com/pf/AD/ADC081S051.html; ComponentLink3Description: MF06A Package Page; ComponentLink3URL: http://www.national.com/packaging/folders/mf06a.html
footprint MF06A_N (SOT23, 6-Leads, Body 2.9x1.6mm, Pitch 0.95mm, Lead Span 2.8mm, IPC Medium Density)
footprint MF06A_L (SOT23, 6-Leads, Body 2.9x1.6mm, Pitch 0.95mm, Lead Span 2.8mm, IPC High Density)
footprint MF06A_M (SOT23, 6-Leads, Body 2.9x1.6mm, Pitch 0.95mm, Lead Span 2.8mm, IPC Low Density)
pins: 1 VA (power), 2 GND (power), 3 VIN (in), 4 SCLK (in), 5 SDATA (out), 6 ~{CS} (in)

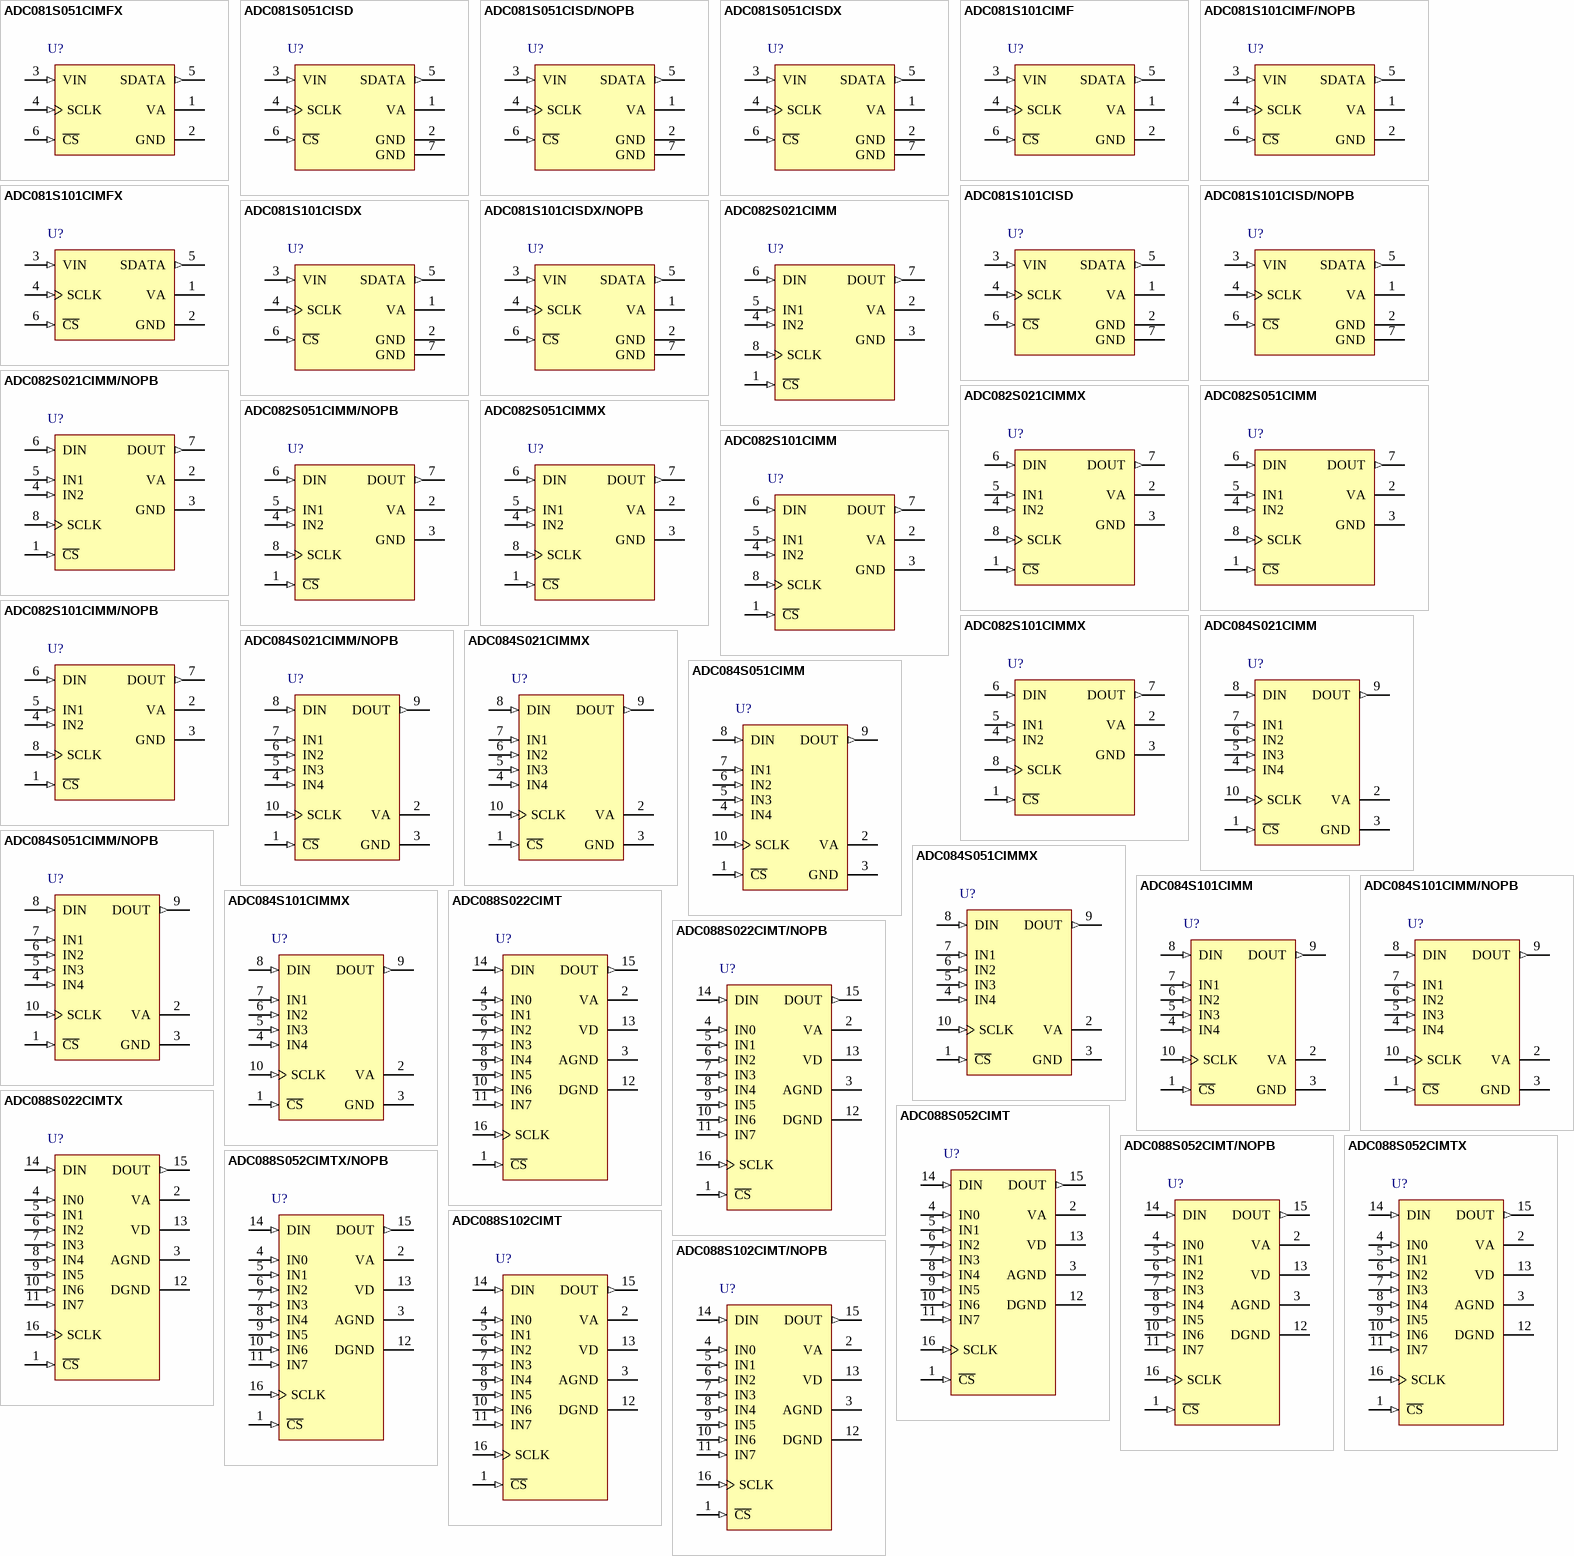
[diagram p31: symbols ADC081S051CIMFX to ADC088S102CIMT/NOPB]

## ADC081S051CIMFX
designator U?
Single Channel, 200 to 500 kSPS, 8-Bit A/D Converter, 6-pin SOT-23; PartNumber: ADC081S051CIMFX; Manufacturer: National Semiconductor; PackageTopMarking: X15C*XTT; PowerWise: Y; CompType: ADC IC; DatasheetVersion: Jan-2010; PackageVersion: revC, Sep-2005; PackageReference: MF06A; PackageDescription: Molded SOT-23, .115 x .063 x .040in Body, 6 Lead, .0375in in Pitch; RoHS: N; PinCount: 6; Code_JEDEC: MO-178-AB; Code_IPC: SOT26A-6; ComponentLink1Description: ADC081S051 Datasheet; ComponentLink1URL: http://www.national.com/ds/AD/ADC081S051.pdf; ComponentLink2Description: ADC081S051 Web Page; ComponentLink2URL: http://www.national.com/pf/AD/ADC081S051.html; ComponentLink3Description: MF06A Package Page; ComponentLink3URL: http://www.national.com/packaging/folders/mf06a.html
footprint MF06A_N (SOT23, 6-Leads, Body 2.9x1.6mm, Pitch 0.95mm, Lead Span 2.8mm, IPC Medium Density)
footprint MF06A_L (SOT23, 6-Leads, Body 2.9x1.6mm, Pitch 0.95mm, Lead Span 2.8mm, IPC High Density)
footprint MF06A_M (SOT23, 6-Leads, Body 2.9x1.6mm, Pitch 0.95mm, Lead Span 2.8mm, IPC Low Density)
pins: 1 VA (power), 2 GND (power), 3 VIN (in), 4 SCLK (in), 5 SDATA (out), 6 ~{CS} (in)

## ADC081S051CISD
designator U?
Single Channel, 200 to 500 kSPS, 8-Bit A/D Converter, 7-pin LLP; PartNumber: ADC081S051CISD; Manufacturer: National Semiconductor; PackageTopMarking: XTT*X6C; PowerWise: Y; CompType: ADC IC; DatasheetVersion: Jan-2010; PackageVersion: revA, Nov-2003; PackageReference: SDB06A; PackageDescription: LLP, Plastic, Dual, 2.2 x 2.5 x 0.8mm Body, 6 Lead, 0.65mm Pitch, No Pullback; RoHS: N; PinCount: 6; ComponentLink1Description: ADC081S051 Datasheet; ComponentLink1URL: http://www.national.com/ds/AD/ADC081S051.pdf; ComponentLink2Description: ADC081S051 Web Page; ComponentLink2URL: http://www.national.com/pf/AD/ADC081S051.html; ComponentLink3Description: SDB06A Package Page; ComponentLink3URL: http://www.national.com/packaging/folders/sdb06a.html
footprint SDB06A (SON, 6-Leads, Body 2.2x2.5mm, Pitch 0.65mm, NSC Recommended (SC-70 Land))
pins: 1 VA (power), 2 GND (power), 3 VIN (in), 4 SCLK (in), 5 SDATA (out), 6 ~{CS} (in), 7 GND (power)

## ADC081S051CISD/NOPB
designator U?
Single Channel, 200 to 500 kSPS, 8-Bit A/D Converter, 6-pin LLP, Pb-Free; PartNumber: ADC081S051CISD/NOPB; Manufacturer: National Semiconductor; PackageTopMarking: XTT*X6C; PowerWise: Y; CompType: ADC IC; DatasheetVersion: Jan-2010; PackageVersion: revA, Nov-2003; PackageReference: SDB06A; PackageDescription: LLP, Plastic, Dual, 2.2 x 2.5 x 0.8mm Body, 6 Lead, 0.65mm Pitch, No Pullback; RoHS: Y; PinCount: 6; ComponentLink1Description: ADC081S051 Datasheet; ComponentLink1URL: http://www.national.com/ds/AD/ADC081S051.pdf; ComponentLink2Description: ADC081S051 Web Page; ComponentLink2URL: http://www.national.com/pf/AD/ADC081S051.html; ComponentLink3Description: SDB06A Package Page; ComponentLink3URL: http://www.national.com/packaging/folders/sdb06a.html
footprint SDB06A (SON, 6-Leads, Body 2.2x2.5mm, Pitch 0.65mm, NSC Recommended (SC-70 Land))
pins: 1 VA (power), 2 GND (power), 3 VIN (in), 4 SCLK (in), 5 SDATA (out), 6 ~{CS} (in), 7 GND (power)

## ADC081S051CISDX
designator U?
Single Channel, 200 to 500 kSPS, 8-Bit A/D Converter, 6-pin LLP; PartNumber: ADC081S051CISDX; Manufacturer: National Semiconductor; PackageTopMarking: XTT*X6C; PowerWise: Y; CompType: ADC IC; DatasheetVersion: Jan-2010; PackageVersion: revA, Nov-2003; PackageReference: SDB06A; PackageDescription: LLP, Plastic, Dual, 2.2 x 2.5 x 0.8mm Body, 6 Lead, 0.65mm Pitch, No Pullback; RoHS: N; PinCount: 6; ComponentLink1Description: ADC081S051 Datasheet; ComponentLink1URL: http://www.national.com/ds/AD/ADC081S051.pdf; ComponentLink2Description: ADC081S051 Web Page; ComponentLink2URL: http://www.national.com/pf/AD/ADC081S051.html; ComponentLink3Description: SDB06A Package Page; ComponentLink3URL: http://www.national.com/packaging/folders/sdb06a.html
footprint SDB06A (SON, 6-Leads, Body 2.2x2.5mm, Pitch 0.65mm, NSC Recommended (SC-70 Land))
pins: 1 VA (power), 2 GND (power), 3 VIN (in), 4 SCLK (in), 5 SDATA (out), 6 ~{CS} (in), 7 GND (power)

## ADC081S101CIMF
designator U?
1MSPS, 8-Bit A/D Converter, 6-pin SOT-23; PartNumber: ADC081S101CIMF; Manufacturer: National Semiconductor; PackageTopMarking: X03C*XTT; PowerWise: Y; CompType: ADC IC; DatasheetVersion: Feb-2010; PackageVersion: revC, Sep-2005; PackageReference: MF06A; PackageDescription: Molded SOT-23, .115 x .063 x .040in Body, 6 Lead, .0375in in Pitch; RoHS: N; PinCount: 6; Code_JEDEC: MO-178-AB; Code_IPC: SOT26A-6; ComponentLink1Description: ADC081S101 Datasheet; ComponentLink1URL: http://www.national.com/ds/AD/ADC081S101.pdf; ComponentLink2Description: ADC081S101 Web Page; ComponentLink2URL: http://www.national.com/pf/AD/ADC081S101.html; ComponentLink3Description: MF06A Package Page; ComponentLink3URL: http://www.national.com/packaging/folders/mf06a.html
footprint MF06A_N (SOT23, 6-Leads, Body 2.9x1.6mm, Pitch 0.95mm, Lead Span 2.8mm, IPC Medium Density)
footprint MF06A_L (SOT23, 6-Leads, Body 2.9x1.6mm, Pitch 0.95mm, Lead Span 2.8mm, IPC High Density)
footprint MF06A_M (SOT23, 6-Leads, Body 2.9x1.6mm, Pitch 0.95mm, Lead Span 2.8mm, IPC Low Density)
pins: 1 VA (power), 2 GND (power), 3 VIN (in), 4 SCLK (in), 5 SDATA (out), 6 ~{CS} (in)

## ADC081S101CIMF/NOPB
designator U?
1MSPS, 8-Bit A/D Converter in 6-pin SOT-23, Pb-Free; PartNumber: ADC081S101CIMF/NOPB; Manufacturer: National Semiconductor; PackageTopMarking: X03C*XTT; PowerWise: Y; CompType: ADC IC; DatasheetVersion: Feb-2010; PackageVersion: revC, Sep-2005; PackageReference: MF06A; PackageDescription: Molded SOT-23, .115 x .063 x .040in Body, 6 Lead, .0375in in Pitch; RoHS: Y; PinCount: 6; Code_JEDEC: MO-178-AB; Code_IPC: SOT26A-6; ComponentLink1Description: ADC081S101 Datasheet; ComponentLink1URL: http://www.national.com/ds/AD/ADC081S101.pdf; ComponentLink2Description: ADC081S101 Web Page; ComponentLink2URL: http://www.national.com/pf/AD/ADC081S101.html; ComponentLink3Description: MF06A Package Page; ComponentLink3URL: http://www.national.com/packaging/folders/mf06a.html
footprint MF06A_N (SOT23, 6-Leads, Body 2.9x1.6mm, Pitch 0.95mm, Lead Span 2.8mm, IPC Medium Density)
footprint MF06A_L (SOT23, 6-Leads, Body 2.9x1.6mm, Pitch 0.95mm, Lead Span 2.8mm, IPC High Density)
footprint MF06A_M (SOT23, 6-Leads, Body 2.9x1.6mm, Pitch 0.95mm, Lead Span 2.8mm, IPC Low Density)
pins: 1 VA (power), 2 GND (power), 3 VIN (in), 4 SCLK (in), 5 SDATA (out), 6 ~{CS} (in)

## ADC081S101CIMFX
designator U?
1MSPS, 8-Bit A/D Converter in 6-pin SOT-23; PartNumber: ADC081S101CIMFX; Manufacturer: National Semiconductor; PackageTopMarking: X03C*XTT; PowerWise: Y; CompType: ADC IC; DatasheetVersion: Feb-2010; PackageVersion: revC, Sep-2005; PackageReference: MF06A; PackageDescription: Molded SOT-23, .115 x .063 x .040in Body, 6 Lead, .0375in in Pitch; RoHS: N; PinCount: 6; Code_JEDEC: MO-178-AB; Code_IPC: SOT26A-6; ComponentLink1Description: ADC081S101 Datasheet; ComponentLink1URL: http://www.national.com/ds/AD/ADC081S101.pdf; ComponentLink2Description: ADC081S101 Web Page; ComponentLink2URL: http://www.national.com/pf/AD/ADC081S101.html; ComponentLink3Description: MF06A Package Page; ComponentLink3URL: http://www.national.com/packaging/folders/mf06a.html
footprint MF06A_N (SOT23, 6-Leads, Body 2.9x1.6mm, Pitch 0.95mm, Lead Span 2.8mm, IPC Medium Density)
footprint MF06A_L (SOT23, 6-Leads, Body 2.9x1.6mm, Pitch 0.95mm, Lead Span 2.8mm, IPC High Density)
footprint MF06A_M (SOT23, 6-Leads, Body 2.9x1.6mm, Pitch 0.95mm, Lead Span 2.8mm, IPC Low Density)
pins: 1 VA (power), 2 GND (power), 3 VIN (in), 4 SCLK (in), 5 SDATA (out), 6 ~{CS} (in)

## ADC081S101CISD
designator U?
1MSPS, 8-Bit A/D Converter, 7-pin LLP; PartNumber: ADC081S101CISD; Manufacturer: National Semiconductor; PackageTopMarking: XTT*X3C; PowerWise: Y; CompType: ADC IC; DatasheetVersion: Feb-2010; PackageVersion: revA, Nov-2003; PackageReference: SDB06A; PackageDescription: LLP, Plastic, Dual, 2.2 x 2.5 x 0.8mm Body, 6 Lead, 0.65mm Pitch, No Pullback; RoHS: N; PinCount: 6; ComponentLink1Description: ADC081S101 Datasheet; ComponentLink1URL: http://www.national.com/ds/AD/ADC081S101.pdf; ComponentLink2Description: ADC081S101 Web Page; ComponentLink2URL: http://www.national.com/pf/AD/ADC081S101.html; ComponentLink3Description: SDB06A Package Page; ComponentLink3URL: http://www.national.com/packaging/folders/sdb06a.html
footprint SDB06A (SON, 6-Leads, Body 2.2x2.5mm, Pitch 0.65mm, NSC Recommended (SC-70 Land))
pins: 1 VA (power), 2 GND (power), 3 VIN (in), 4 SCLK (in), 5 SDATA (out), 6 ~{CS} (in), 7 GND (power)

## ADC081S101CISD/NOPB
designator U?
1MSPS, 8-Bit A/D Converter in 6-pin LLP, Pb-Free; PartNumber: ADC081S101CISD/NOPB; Manufacturer: National Semiconductor; PackageTopMarking: XTT*X3C; PowerWise: Y; CompType: ADC IC; DatasheetVersion: Feb-2010; PackageVersion: revA, Nov-2003; PackageReference: SDB06A; PackageDescription: LLP, Plastic, Dual, 2.2 x 2.5 x 0.8mm Body, 6 Lead, 0.65mm Pitch, No Pullback; RoHS: Y; PinCount: 6; ComponentLink1Description: ADC081S101 Datasheet; ComponentLink1URL: http://www.national.com/ds/AD/ADC081S101.pdf; ComponentLink2Description: ADC081S101 Web Page; ComponentLink2URL: http://www.national.com/pf/AD/ADC081S101.html; ComponentLink3Description: SDB06A Package Page; ComponentLink3URL: http://www.national.com/packaging/folders/sdb06a.html
footprint SDB06A (SON, 6-Leads, Body 2.2x2.5mm, Pitch 0.65mm, NSC Recommended (SC-70 Land))
pins: 1 VA (power), 2 GND (power), 3 VIN (in), 4 SCLK (in), 5 SDATA (out), 6 ~{CS} (in), 7 GND (power)

## ADC081S101CISDX
designator U?
1MSPS, 8-Bit A/D Converter in 6-pin LLP; PartNumber: ADC081S101CISDX; Manufacturer: National Semiconductor; PackageTopMarking: XTT*X3C; PowerWise: Y; CompType: ADC IC; DatasheetVersion: Feb-2010; PackageVersion: revA, Nov-2003; PackageReference: SDB06A; PackageDescription: LLP, Plastic, Dual, 2.2 x 2.5 x 0.8mm Body, 6 Lead, 0.65mm Pitch, No Pullback; RoHS: N; PinCount: 6; ComponentLink1Description: ADC081S101 Datasheet; ComponentLink1URL: http://www.national.com/ds/AD/ADC081S101.pdf; ComponentLink2Description: ADC081S101 Web Page; ComponentLink2URL: http://www.national.com/pf/AD/ADC081S101.html; ComponentLink3Description: SDB06A Package Page; ComponentLink3URL: http://www.national.com/packaging/folders/sdb06a.html
footprint SDB06A (SON, 6-Leads, Body 2.2x2.5mm, Pitch 0.65mm, NSC Recommended (SC-70 Land))
pins: 1 VA (power), 2 GND (power), 3 VIN (in), 4 SCLK (in), 5 SDATA (out), 6 ~{CS} (in), 7 GND (power)

## ADC081S101CISDX/NOPB
designator U?
1MSPS, 8-Bit A/D Converter in 6-pin LLP, Pb-Free; PartNumber: ADC081S101CISDX/NOPB; Manufacturer: National Semiconductor; PackageTopMarking: XTT*X3C; PowerWise: Y; CompType: ADC IC; DatasheetVersion: Feb-2010; PackageVersion: revA, Nov-2003; PackageReference: SDB06A; PackageDescription: LLP, Plastic, Dual, 2.2 x 2.5 x 0.8mm Body, 6 Lead, 0.65mm Pitch, No Pullback; RoHS: Y; PinCount: 6; ComponentLink1Description: ADC081S101 Datasheet; ComponentLink1URL: http://www.national.com/ds/AD/ADC081S101.pdf; ComponentLink2Description: ADC081S101 Web Page; ComponentLink2URL: http://www.national.com/pf/AD/ADC081S101.html; ComponentLink3Description: SDB06A Package Page; ComponentLink3URL: http://www.national.com/packaging/folders/sdb06a.html
footprint SDB06A (SON, 6-Leads, Body 2.2x2.5mm, Pitch 0.65mm, NSC Recommended (SC-70 Land))
pins: 1 VA (power), 2 GND (power), 3 VIN (in), 4 SCLK (in), 5 SDATA (out), 6 ~{CS} (in), 7 GND (power)

## ADC082S021CIMM
designator U?
2 Channel, 200 kSPS, 8-Bit A/D Converter, 8-pin Mini SOIC; PartNumber: ADC082S021CIMM; Manufacturer: National Semiconductor; PackageTopMarking: ZXTT*X16C; PowerWise: Y; CompType: ADC IC; DatasheetVersion: Apr-2005; PackageVersion: revF, Apr-2008; PackageReference: MUA08A; PackageDescription: MINI SOIC, .118 x .118 x .034in, 8 Lead, .0256in Pitch; RoHS: N; PinCount: 8; Code_JEDEC: MO-187-AA; ComponentLink1Description: ADC082S021 Datasheet; ComponentLink1URL: http://www.national.com/ds/AD/ADC082S021.pdf; ComponentLink2Description: ADC082S021 Web Page; ComponentLink2URL: http://www.national.com/pf/AD/ADC082S021.html; ComponentLink3Description: MUA08A Package Page; ComponentLink3URL: http://www.national.com/packaging/folders/mua08a.html
footprint MUA08A_N (TSOP, 8-Leads, Body 3x3mm, Pitch 0.65mm, IPC Medium Density)
footprint MUA08A_L (TSOP, 8-Leads, Body 3x3mm, Pitch 0.65mm, IPC High Density)
footprint MUA08A_M (TSOP, 8-Leads, Body 3x3mm, Pitch 0.65mm, IPC Low Density)
pins: 1 ~{CS} (in), 2 VA (power), 3 GND (power), 4 IN2 (in), 5 IN1 (in), 6 DIN (in), 7 DOUT (out), 8 SCLK (in)

## ADC082S021CIMM/NOPB
designator U?
2 Channel, 50 kSPS to 200 kSPS, 8-Bit A/D Converter, 8-pin Mini SOIC, Pb-Free; PartNumber: ADC082S021CIMM/NOPB; Manufacturer: National Semiconductor; PackageTopMarking: ZXTT*X16C; PowerWise: Y; CompType: ADC IC; DatasheetVersion: Apr-2005; PackageVersion: revF, Apr-2008; PackageReference: MUA08A; PackageDescription: MINI SOIC, .118 x .118 x .034in, 8 Lead, .0256in Pitch; RoHS: Y; PinCount: 8; Code_JEDEC: MO-187-AA; ComponentLink1Description: ADC082S021 Datasheet; ComponentLink1URL: http://www.national.com/ds/AD/ADC082S021.pdf; ComponentLink2Description: ADC082S021 Web Page; ComponentLink2URL: http://www.national.com/pf/AD/ADC082S021.html; ComponentLink3Description: MUA08A Package Page; ComponentLink3URL: http://www.national.com/packaging/folders/mua08a.html
footprint MUA08A_N (TSOP, 8-Leads, Body 3x3mm, Pitch 0.65mm, IPC Medium Density)
footprint MUA08A_L (TSOP, 8-Leads, Body 3x3mm, Pitch 0.65mm, IPC High Density)
footprint MUA08A_M (TSOP, 8-Leads, Body 3x3mm, Pitch 0.65mm, IPC Low Density)
pins: 1 ~{CS} (in), 2 VA (power), 3 GND (power), 4 IN2 (in), 5 IN1 (in), 6 DIN (in), 7 DOUT (out), 8 SCLK (in)

## ADC082S021CIMMX
designator U?
2 Channel, 50 kSPS to 200 kSPS, 8-Bit A/D Converter, 8-pin Mini SOIC; PartNumber: ADC082S021CIMMX; Manufacturer: National Semiconductor; PackageTopMarking: ZXTT*X16C; PowerWise: Y; CompType: ADC IC; DatasheetVersion: Apr-2005; PackageVersion: revF, Apr-2008; PackageReference: MUA08A; PackageDescription: MINI SOIC, .118 x .118 x .034in, 8 Lead, .0256in Pitch; RoHS: N; PinCount: 8; Code_JEDEC: MO-187-AA; ComponentLink1Description: ADC082S021 Datasheet; ComponentLink1URL: http://www.national.com/ds/AD/ADC082S021.pdf; ComponentLink2Description: ADC082S021 Web Page; ComponentLink2URL: http://www.national.com/pf/AD/ADC082S021.html; ComponentLink3Description: MUA08A Package Page; ComponentLink3URL: http://www.national.com/packaging/folders/mua08a.html
footprint MUA08A_N (TSOP, 8-Leads, Body 3x3mm, Pitch 0.65mm, IPC Medium Density)
footprint MUA08A_L (TSOP, 8-Leads, Body 3x3mm, Pitch 0.65mm, IPC High Density)
footprint MUA08A_M (TSOP, 8-Leads, Body 3x3mm, Pitch 0.65mm, IPC Low Density)
pins: 1 ~{CS} (in), 2 VA (power), 3 GND (power), 4 IN2 (in), 5 IN1 (in), 6 DIN (in), 7 DOUT (out), 8 SCLK (in)

## ADC082S051CIMM
designator U?
2 Channel, 500 kSPS, 8-Bit A/D Converter, 8-pin Mini SOIC; PartNumber: ADC082S051CIMM; Manufacturer: National Semiconductor; PackageTopMarking: ZXTT*X04C; PowerWise: Y; CompType: ADC IC; DatasheetVersion: Feb-2010; PackageVersion: revF, Apr-2008; PackageReference: MUA08A; PackageDescription: MINI SOIC, .118 x .118 x .034in, 8 Lead, .0256in Pitch; RoHS: N; PinCount: 8; Code_JEDEC: MO-187-AA; ComponentLink1Description: ADC082S051 Datasheet; ComponentLink1URL: http://www.national.com/ds/AD/ADC082S051.pdf; ComponentLink2Description: ADC082S051 Web Page; ComponentLink2URL: http://www.national.com/pf/AD/ADC082S051.html; ComponentLink3Description: MUA08A Package Page; ComponentLink3URL: http://www.national.com/packaging/folders/mua08a.html
footprint MUA08A_N (TSOP, 8-Leads, Body 3x3mm, Pitch 0.65mm, IPC Medium Density)
footprint MUA08A_L (TSOP, 8-Leads, Body 3x3mm, Pitch 0.65mm, IPC High Density)
footprint MUA08A_M (TSOP, 8-Leads, Body 3x3mm, Pitch 0.65mm, IPC Low Density)
pins: 1 ~{CS} (in), 2 VA (power), 3 GND (power), 4 IN2 (in), 5 IN1 (in), 6 DIN (in), 7 DOUT (out), 8 SCLK (in)